# EAGLE library part PIC32MX250F128B (library me433)
PIC32MX250F128B Microchip Technology * 28-pin DIP package * 32-bit Microcontroller * 19 remappable pins * 128 kB of Program Memory * 32 kB of Data Memory * 2 UART, 2 SPI interfaces
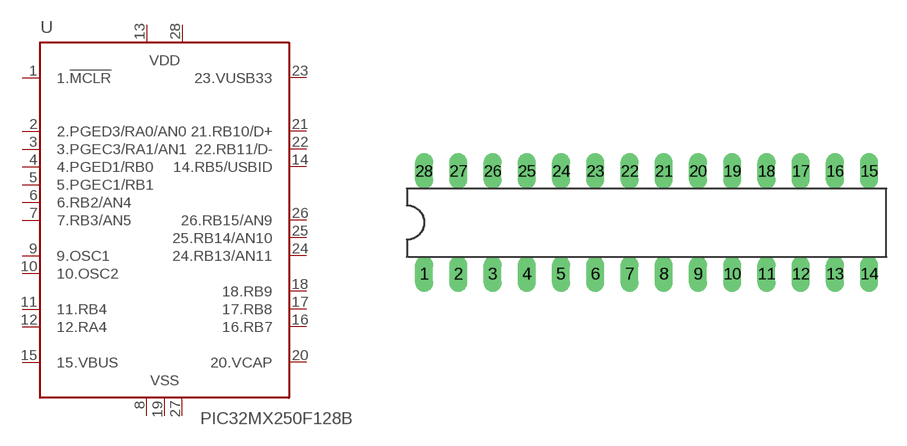
[diagram p1: symbol with the pads of DIP28-3; footprint DIP28-3]

Designator prefix -

## PIC32MX250F128B (VALUE: PIC32MX250F128B)  [DIP28-3]
1  1.!MCLR  in
2  2.PGED3/RA0/AN0
3  3.PGEC3/RA1/AN1
4  4.PGED1/RB0
5  5.PGEC1/RB1
6  6.RB2/AN4
7  7.RB3/AN5
8  8.VSS  pwr
9  9.OSC1  in
10  10.OSC2  out
11  11.RB4
12  12.RA4
13  13.VDD  pwr
14  14.RB5/USBID
15  15.VBUS
16  16.RB7
17  17.RB8
18  18.RB9
19  19.VSS  pwr
20  20.VCAP
21  21.RB10/D+
22  22.RB11/D-
23  23.VUSB33
24  24.RB13/AN11
25  25.RB14/AN10
26  26.RB15/AN9
27  27.AVSS
28  28.AVDD  pwr

## Footprint DIP28-3 (pad centres in mm)
Dual In-Line Package (DIP) - 28 Pin * Pin Count : 28 * Pin Pitch : 0.1" * Side Pitch : 0.3"
drill 0.813 long: 1 -16.51,-3.81; 2 -13.97,-3.81; 3 -11.43,-3.81; 4 -8.89,-3.81; 5 -6.35,-3.81; 6 -3.81,-3.81; 7 -1.27,-3.81; 8 1.27,-3.81; 9 3.81,-3.81; 10 6.35,-3.81; 11 8.89,-3.81; 12 11.43,-3.81; 13 13.97,-3.81; 14 16.51,-3.81; 15 16.51,3.81; 16 13.97,3.81; 17 11.43,3.81; 18 8.89,3.81; 19 6.35,3.81; 20 3.81,3.81; 21 1.27,3.81; 22 -1.27,3.81; 23 -3.81,3.81; 24 -6.35,3.81; 25 -8.89,3.81; 26 -11.43,3.81; 27 -13.97,3.81; 28 -16.51,3.81